# EAGLE library part TLC59108 (library m_ic-power)
TLC59108 8-Bit Fm+ I2C-Bus Constant-Current LED Sink Driver http://www.ti.com/product/TLC59108/datasheet
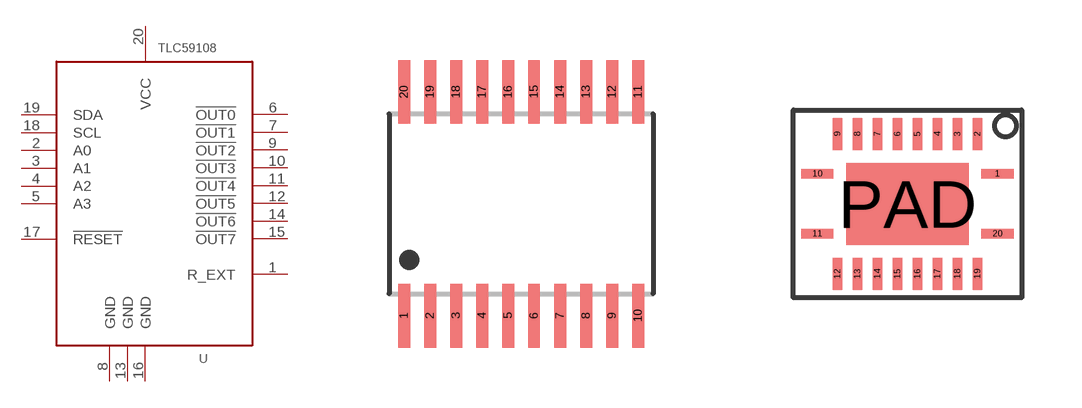
[diagram p11: symbol with the pads of R-PDSO-G20; footprints R-PDSO-G20, R-PVQFN-N20]

Designator prefix U

## TLC59108R-PDSO-G20 (MANUF: TI; PARTNUM: TLC59108IPWR)  [R-PDSO-G20]
1  R_EXT
2  A0
3  A1
4  A2
5  A3
6  !OUT0
7  !OUT1
8  GND
9  !OUT2
10  !OUT3
11  !OUT4
12  !OUT5
13  GND
14  !OUT6
15  !OUT7
16  GND
17  !RESET
18  SCL
19  SDA
20  VCC

## TLC59108R-PVQFN-N20 (MANUF: TI; PARTNUM: TLC59108IRGYR)  [R-PVQFN-N20]
1  R_EXT
2  A0
3  A1
4  A2
5  A3
6  !OUT0
7  !OUT1
8  GND
9  !OUT2
10  !OUT3
11  !OUT4
12  !OUT5
13  GND
14  !OUT6
15  !OUT7
16  GND
17  !RESET
18  SCL
19  SDA
20  VCC
PAD  GND

## Footprint R-PDSO-G20 (pad centres in mm)
TI PWP (R-PDSO-G20) PowerPad Plastic Small Outline
smd 0.3 x 1.6: 1 -2.925,-2.8; 2 -2.275,-2.8; 3 -1.625,-2.8; 4 -0.975,-2.8; 5 -0.325,-2.8; 6 0.325,-2.8; 7 0.975,-2.8; 8 1.625,-2.8; 9 2.275,-2.8; 10 2.925,-2.8; 11 2.925,2.8; 12 2.275,2.8; 13 1.625,2.8; 14 0.975,2.8; 15 0.325,2.8; 16 -0.325,2.8; 17 -0.975,2.8; 18 -1.625,2.8; 19 -2.275,2.8; 20 -2.925,2.8

## Footprint R-PVQFN-N20 (pad centres in mm)
smd 0.8 x 0.23: 1 2.25,0.75; 10 -2.25,0.75; 11 -2.25,-0.75; 20 2.25,-0.75
smd 0.23 x 0.8: 2 1.75,1.75; 3 1.25,1.75; 4 0.75,1.75; 5 0.25,1.75; 6 -0.25,1.75; 7 -0.75,1.75; 8 -1.25,1.75; 9 -1.75,1.75; 12 -1.75,-1.75; 13 -1.25,-1.75; 14 -0.75,-1.75; 15 -0.25,-1.75; 16 0.25,-1.75; 17 0.75,-1.75; 18 1.25,-1.75; 19 1.75,-1.75
smd 3.05 x 2.05: PAD 0,0